# EAGLE library part AD8226ARMZ (library AD8226ARMZ)
Wide Supply Range, Rail-to-Rail Output Instrumentation Amplifier Source: Datasheet <http://www.analog.com/media/en/technical-documentation/data-sheets/AD8226.pdf>
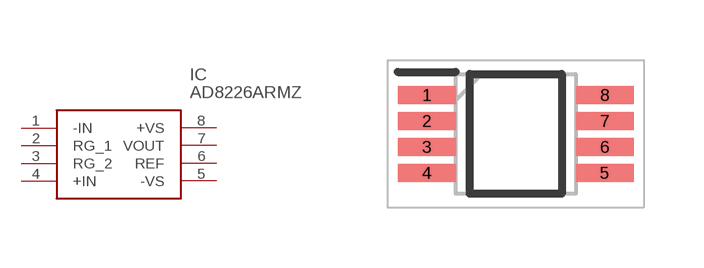
[diagram p0: symbol with the pads of SOP65P490X110-8N; footprint SOP65P490X110-8N]

Designator prefix IC

## AD8226ARMZ (Description: Wide Supply Range, Rail-to-Rail Output Instrumentation Amplifier; Height: 1.1mm; Manufacturer_Name: Analog Devices; Manufacturer_Part_Number: AD8226ARMZ; Mouser_Part_Number: 584-AD8226ARMZ; Mouser_Price-Stock: https://www.mouser.co.uk/ProductDetail/Analog-Devices/AD8226ARMZ?qs=%2FtpEQrCGXCzt4qnwBCHKiA%3D%3D)  [SOP65P490X110-8N]
1  -IN
2  RG_1
3  RG_2
4  +IN
5  -VS
6  REF
7  VOUT
8  +VS

## Footprint SOP65P490X110-8N (pad centres in mm)
8-Lead Mini Small Outline Package [MSOP] (RM-8)
smd 1.45 x 0.45: 1 -2.225,0.975; 2 -2.225,0.325; 3 -2.225,-0.325; 4 -2.225,-0.975; 5 2.225,-0.975; 6 2.225,-0.325; 7 2.225,0.325; 8 2.225,0.975